# Altium schematic symbol library Connector-NET.SchLib: 4 symbols
Pins are listed as number, name and electrical type; pins without a type are passive.

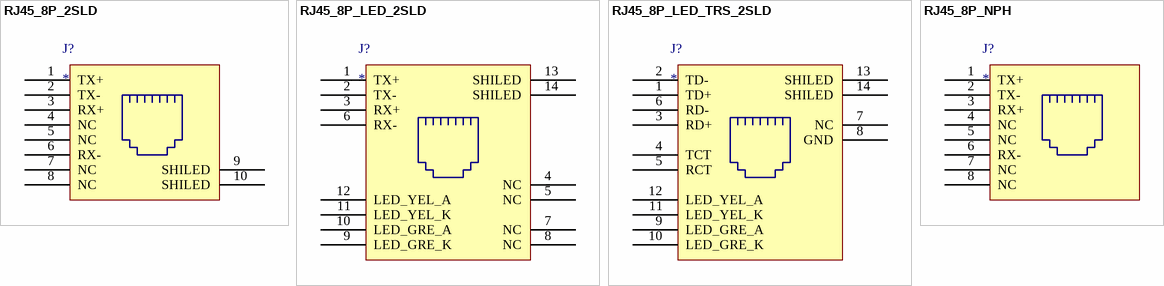
[diagram p0: symbols RJ45_8P_2SLD to RJ45_8P_NPH]

## RJ45_8P_2SLD
designator J?
footprint RJ45-8P_18.4L*15.8W*13.35H (Ckmtw R-RJ45R10P-B000)
footprint RJ45-8P_15.75L*16.26W*13.1H (Ckmtw,R-RJ45R08P-B000)
pins: 1 TX+, 2 TX-, 3 RX+, 4 NC, 5 NC, 6 RX-, 7 NC, 8 NC, 9 SHILED, 10 SHILED

## RJ45_8P_LED_2SLD
designator J?
footprint RJ45-8P-LED_15.75L*16.51W*13.46H (HR911103A)
pins: 1 TX+, 2 TX-, 3 RX+, 4 NC, 5 NC, 6 RX-, 7 NC, 8 NC, 9 LED_GRE_K, 10 LED_GRE_A, 11 LED_YEL_K, 12 LED_YEL_A, 13 SHILED, 14 SHILED

## RJ45_8P_LED_TRS_2SLD
designator J?
footprint RJ45-8P-LED_21.3L*16W*13.5H (HR911103A)
pins: 1 TD+, 2 TD-, 3 RD+, 4 TCT, 5 RCT, 6 RD-, 7 NC, 8 GND, 9 LED_GRE_A, 10 LED_GRE_K, 11 LED_YEL_K, 12 LED_YEL_A, 13 SHILED, 14 SHILED

## RJ45_8P_NPH
designator J?
footprint RJ45-8P_15.1L*15.9W*12.6H
pins: 1 TX+, 2 TX-, 3 RX+, 4 NC, 5 NC, 6 RX-, 7 NC, 8 NC